# EAGLE library part ADAFRUIT_BNO08X (library ADAFRUIT_BNO08x)
Adafruit BNO08x Device
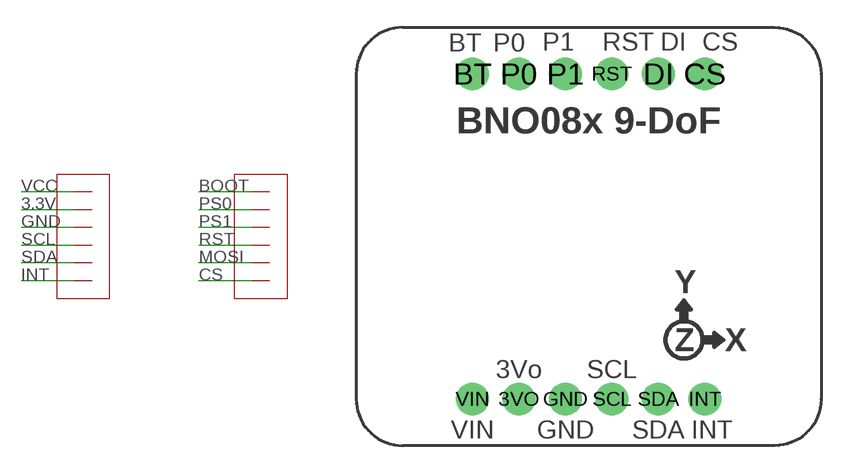
[diagram p0: symbol with the pads of ADAFRUIT_BNO08X_FOOTPRINT; footprint ADAFRUIT_BNO08X_FOOTPRINT]

Designator prefix -

## ADAFRUIT_BNO08X  [ADAFRUIT_BNO08X_FOOTPRINT]
3VO  3.3V
BT  BOOT
CS  CS
DI  MOSI
GND  GND
INT  INT
P0  PS0
P1  PS1
RST  RST
SCL  SCL
SDA  SDA
VIN  VCC

## Footprint ADAFRUIT_BNO08X_FOOTPRINT (pad centres in mm)
Layout footprint for the Adafruit BNO08x
drill 1 pad 1.778: 3VO 10.16,3.81; BT 7.62,21.59; CS 20.32,21.59; DI 17.78,21.59; GND 12.7,3.81; INT 20.32,3.81; P0 10.16,21.59; P1 12.7,21.59; RST 15.24,21.59; SCL 15.24,3.81; SDA 17.78,3.81; VIN 7.62,3.81